# EAGLE library part IC_HX711 (library akita)
Avia's Load Cell amp&24bit ADC
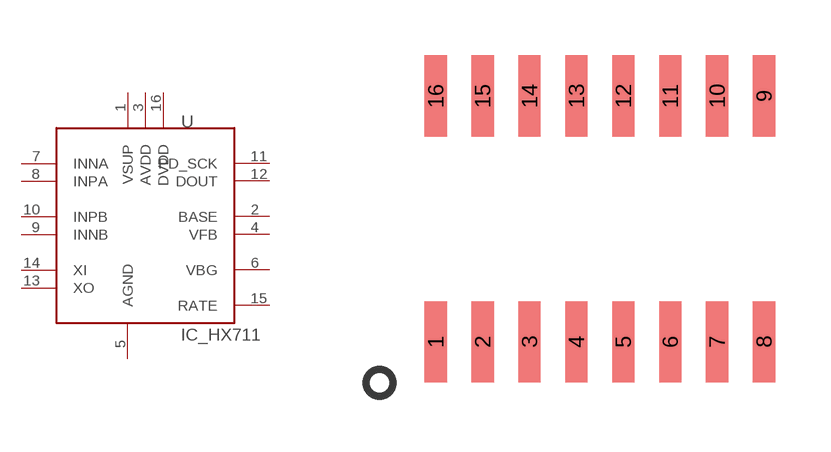
[diagram p125: symbol with the pads of SOIC16; footprint SOIC16]

Designator prefix U

## IC_HX711  [SOIC16]
1  VSUP
2  BASE
3  AVDD
4  VFB
5  AGND
6  VBG
7  INNA
8  INPA
9  INNB
10  INPB
11  PD_SCK
12  DOUT
13  XO
14  XI
15  RATE
16  DVDD

## Footprint SOIC16 (pad centres in mm)
smd 0.6 x 2.2: 1 -4.445,-3.33; 2 -3.175,-3.33; 3 -1.905,-3.33; 4 -0.635,-3.33; 5 0.635,-3.33; 6 1.905,-3.33; 7 3.175,-3.33; 8 4.445,-3.33; 9 4.445,3.33; 10 3.175,3.33; 11 1.905,3.33; 12 0.635,3.33; 13 -0.635,3.33; 14 -1.905,3.33; 15 -3.175,3.33; 16 -4.445,3.33